# Altium schematic symbol library SEMATIK_LIB.SchLib: 632 symbols (part 6 of 21)
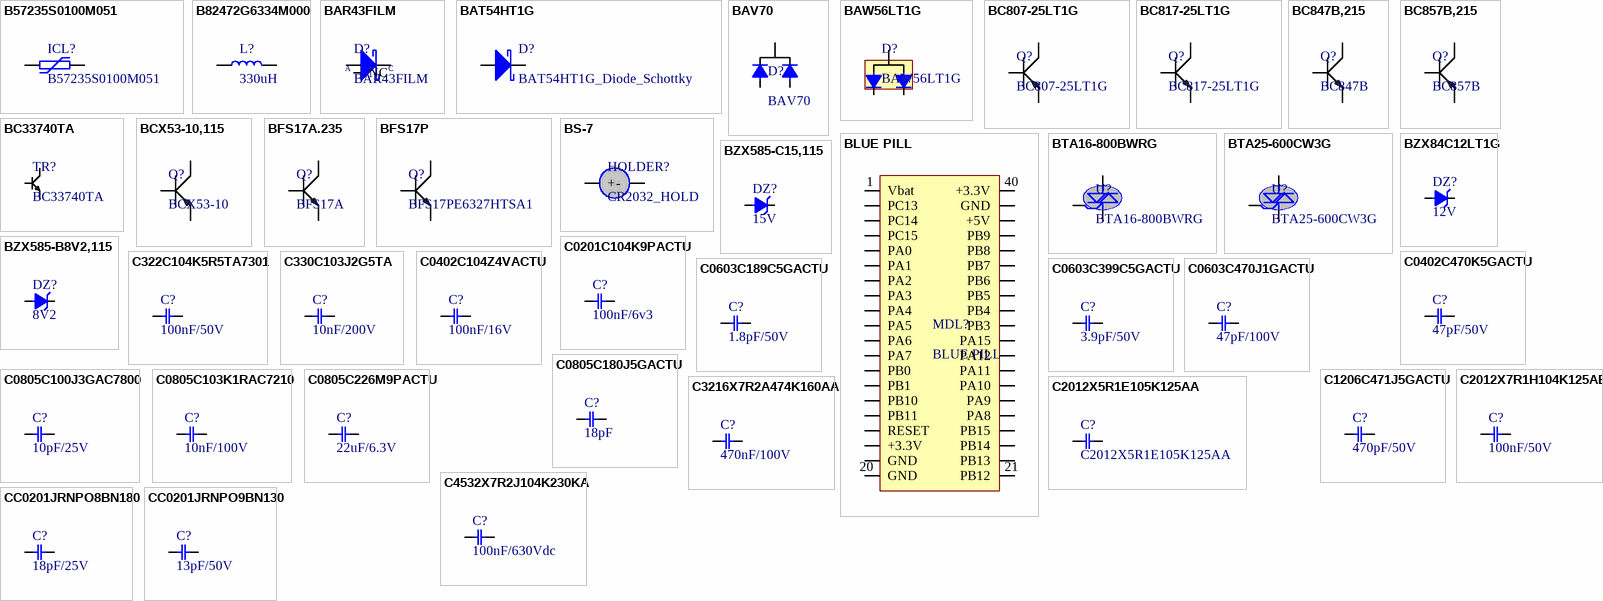
[diagram p21: symbols B57235S0100M051 to CC0201JRNPO9BN130]

## C4532X7R2J104K230KA
designator C?, comment 100nF/630Vdc
CAP CER nF 100 630V X7R 1812; Manufacturer 1: TDK; Manufacturer Part Number 1: C4532X7R2J104K230KA; Description 1: CAP CER 0.1UF 630V X7R 1812; Tolerance: 10%; Capacitance: 100nF; Supplier 1: Digi-Key; Stock 1: 56205; Pricing 1: 1=0.66, 10=0.483, 100=0.3312 (USD); Mount: Surface Mount; Case/Package: 1812; Weight: 0.000952oz; Case Code (Metric): 4532; Case Code (Imperial): 1812; Min Operating Temperature: -55°C; Max Operating Temperature: 125°C; Packaging: Tape and Reel; Package Quantity: 1; Voltage Rating: 630V; Voltage Rating (DC): 630V; Dielectric: X7R; Termination: SMD/SMT; Composition: Ceramic; Voltage: 630V; Length: 4.5mm; Height: 2.3mm; Width: 0.126inch; Thickness: 0.098inch; Depth: 3.2mm; REACH SVHC: No SVHC; Lead Free: Lead Free; ComponentLink1URL: http://uk.rs-online.com/webdocs/1532/0900766b81532cd0.pdf?src-supplier=RSComponents; ComponentLink1Description: http://uk.rs-online.com/webdocs/1532/0900766b81532cd0.pdf?src-supplier=RSComponents; ComponentLink2URL: http://www.mouser.com/ds/2/400/lcc_commercial_highvoltage_en-520036.pdf?src-supplier=Mouser; ComponentLink2Description: http://www.mouser.com/ds/2/400/lcc_commercial_highvoltage_en-520036.pdf?src-supplier=Mouser; Supplier Part Number 1: 445-2300-1-ND
footprint Cap_1812
pins: 1, 2

## CC0201JRNPO8BN180
designator C?, comment 18pF/25V
CAP CER pF 18 25V NPO 0201; Manufacturer: Yageo; Manufacturer Part Number: CC0201JRNPO8BN180; Dielectric: C0G; Capacitance: 18pF; Tolerance: 5%; Supplier 1: Digi-Key; Stock 1: 48145; Pricing 1: 1 = 0,10000, 10 = 0,01500, 50 = 0,00840, 100 = 0,00680, 500 = 0,00488, 1000 = 0,00384, 2500 = 0,00349, 5000 = 0,00321 (USD); RoHS: Yes; Mount: Surface Mount; Case/Package: 0201; Weight: 6E-06oz; Case Code (Imperial): 0201; Case Code (Metric): 0603; Min Operating Temperature: -55°C; Max Operating Temperature: 125°C; Termination: SMD/SMT; Composition: Ceramic; Voltage Rating: 25V; Voltage Rating (DC): 25V; Packaging: Tape and Reel; Length: 0.024inch; Width: 0.012inch; Thickness: 0.013inch; ComponentLink1URL: http://www.mouser.com/ds/2/447/Yageo_UPY-GP_NP0_16V-to-50V_9-358835.pdf?src-supplier=Mouser; ComponentLink1Description: http://www.mouser.com/ds/2/447/Yageo_UPY-GP_NP0_16V-to-50V_9-358835.pdf?src-supplier=Mouser; ComponentLink2URL: http://components.arrow.com/part/dataview/0323_04166358?src-supplier=Arrow+Europe; ComponentLink2Description: http://components.arrow.com/part/dataview/0323_04166358?src-supplier=Arrow+Europe; ComponentLink3URL: http://www.yageo.com/NewPortal/yageodocoutput?fileName=/pdf/MLCC/UPY-GP_NP0_16V-to-50V_14.pdf&src-supplier=Digi-Key; ComponentLink3Description: http://www.yageo.com/NewPortal/yageodocoutput?fileName=/pdf/MLCC/UPY-GP_NP0_16V-to-50V_14.pdf&src-supplier=Digi-Key; ComponentLink4URL: http://www.yageo.com/documents/recent/UPY-GP_NP0_16V-to-50V_16.pdf?src-supplier=Digi-Key; ComponentLink4Description: http://www.yageo.com/documents/recent/UPY-GP_NP0_16V-to-50V_16.pdf?src-supplier=Digi-Key; Supplier Part Number 1: 311-3314-6-ND
footprint cap_0201
pins: 1, 2

## CC0201JRNPO9BN130
designator C?, comment 13pF/50V
CAP CER pF 13 50V C0G/NPO 0201; Manufacturer: Yageo; Manufacturer Part Number: CC0201JRNPO9BN130; Supplier 1: Digi-Key; Stock 1: 0; Pricing 1: 15000 = 0,01136 (USD); Supplier Part Number 1: 13-CC0201JRNPO9BN130TR-ND
footprint cap_0201
pins: 1, 2

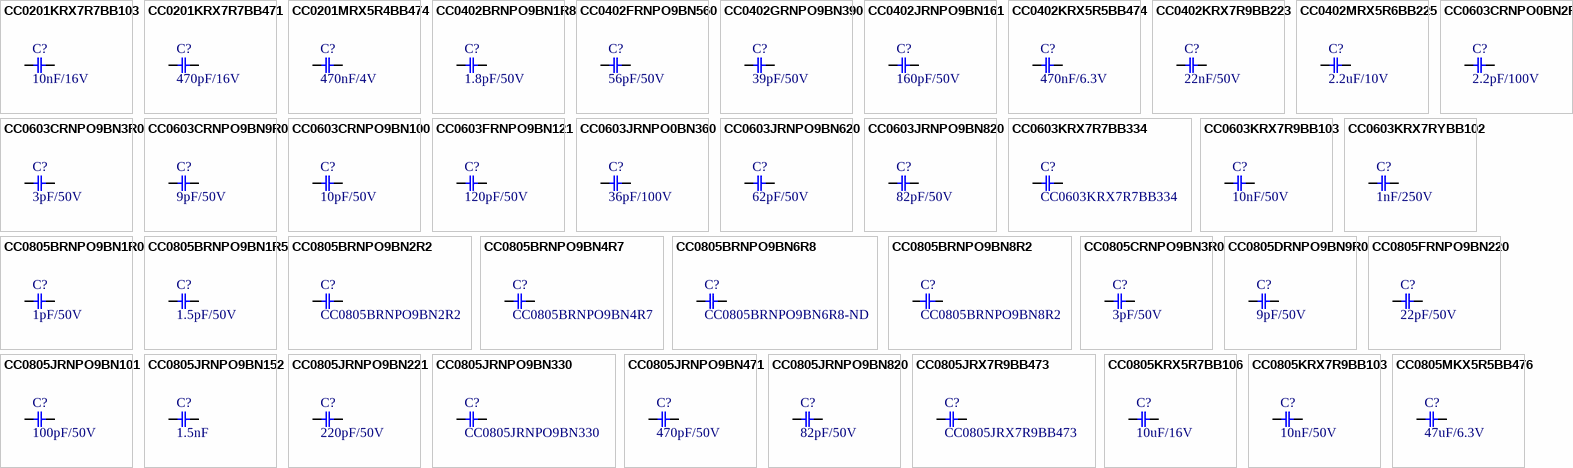
[diagram p4: symbols CC0201KRX7R7BB103 to CC0805MKX5R5BB476]

## CC0201KRX7R7BB103
designator C?, comment 10nF/16V
CAP CER nF 10 16V X7R 0201; Manufacturer: Yageo; Manufacturer Part Number: CC0201KRX7R7BB103; Capacitance: 10nF; Tolerance: 10%; Supplier 1: Digi-Key; Stock 1: 1656820; Pricing 1: 1 = 0,10000, 10 = 0,01900, 100 = 0,00830, 500 = 0,00592, 1000 = 0,00466, 2500 = 0,00424, 5000 = 0,00390 (USD); RoHS: Yes; Mount: Surface Mount; Case/Package: 0201; Weight: 6E-06oz; Case Code (Imperial): 0201; Case Code (Metric): 0603; Min Operating Temperature: -55°C; Max Operating Temperature: 125°C; Voltage Rating: 16V; Package Quantity: 1; Voltage Rating (DC): 16V; Packaging: Tape and Reel; Dielectric: X7R; Termination: SMD/SMT; Composition: Ceramic; Length: 0.6mm; Height: 0.3mm; Width: 0.3mm; Thickness: 0.013inch; Depth: 0.3mm; Lead Free: Lead Free; Halogen Free: Halogen Free; ComponentLink1URL: https://datasheet.ciiva.com/13265/upy-gphc-x7r-6-3v-to-50v-8-12304-13265093.pdf?src-supplier=Mouser; ComponentLink1Description: https://datasheet.ciiva.com/13265/upy-gphc-x7r-6-3v-to-50v-8-12304-13265093.pdf?src-supplier=Mouser; ComponentLink2URL: https://datasheet.ciiva.com/176/mlccorderingcode-176522.pdf?src-supplier=Digi-Key; ComponentLink2Description: https://datasheet.ciiva.com/176/mlccorderingcode-176522.pdf?src-supplier=Digi-Key; ComponentLink3URL: https://datasheet.ciiva.com/176/mlccorderingcode-176523.pdf?src-supplier=Digi-Key; ComponentLink3Description: https://datasheet.ciiva.com/176/mlccorderingcode-176523.pdf?src-supplier=Digi-Key; ComponentLink4URL: https://datasheet.ciiva.com/176/mlccorderingcode-176524.pdf?src-supplier=Digi-Key; ComponentLink4Description: https://datasheet.ciiva.com/176/mlccorderingcode-176524.pdf?src-supplier=Digi-Key; Supplier Part Number 1: 311-1404-6-ND
footprint cap_0201
pins: 1, 2

## CC0201KRX7R7BB471
designator C?, comment 470pF/16V
CAP CER pF 470 16V X7R 0201; Manufacturer: Yageo; Manufacturer Part Number: CC0201KRX7R7BB471; Capacitance: 470pF; Tolerance: 10%; Supplier 1: Digi-Key; Stock 1: 26797; Pricing 1: 1 = 0,10000, 10 = 0,02700, 50 = 0,01460, 100 = 0,01200, 500 = 0,00854, 1000 = 0,00672, 2500 = 0,00610, 5000 = 0,00562 (USD); RoHS: Yes; Mount: Surface Mount; Case/Package: 0201; Weight: 6E-06oz; Case Code (Imperial): 0201; Case Code (Metric): 0603; Min Operating Temperature: -55°C; Max Operating Temperature: 125°C; Voltage Rating (DC): 16V; Packaging: Tape and Reel; Dielectric: X7R; Voltage Rating: 16V; Termination: SMD/SMT; Composition: Ceramic; Length: 0.024inch; Width: 0.012inch; Thickness: 0.013inch; Depth: 0.3mm; Radiation Hardening: No; Lead Free: Lead Free; Halogen Free: Halogen Free; ComponentLink1URL: https://datasheet.ciiva.com/11587/upy-gphc-x7r-6-3v-to-50v-8-11587099.pdf?src-supplier=Avnet; ComponentLink1Description: https://datasheet.ciiva.com/11587/upy-gphc-x7r-6-3v-to-50v-8-11587099.pdf?src-supplier=Avnet; ComponentLink2URL: https://datasheet.ciiva.com/13209/upy-gphc-x7r-6-3v-to-50v-8-12304-13209598.pdf?src-supplier=Mouser; ComponentLink2Description: https://datasheet.ciiva.com/13209/upy-gphc-x7r-6-3v-to-50v-8-12304-13209598.pdf?src-supplier=Mouser; Supplier Part Number 1: 311-1603-1-ND
footprint cap_0201
pins: 1, 2

## CC0201MRX5R4BB474
designator C?, comment 470nF/4V
CAP CER nF 470 4V X5R 0201; Manufacturer: Yageo; Manufacturer Part Number: CC0201MRX5R4BB474; Capacitance: 470nF; Tolerance: 20%; Supplier 1: Digi-Key; Stock 1: 75584; Pricing 1: 1 = 0,10000, 10 = 0,07100, 100 = 0,03150, 500 = 0,02252, 1000 = 0,01770, 2500 = 0,01609, 5000 = 0,01480 (USD); RoHS: Yes; Mount: Surface Mount; Case/Package: 0201; Min Operating Temperature: -55°C; Max Operating Temperature: 85°C; Packaging: Tape and Reel; Voltage Rating: 4V; Length: 0.024inch; Width: 0.012inch; Thickness: 0.013inch; ComponentLink1URL: http://www.yageo.com/documents/recent/UPY-GPHC_X5R_4V-to-50V_23.pdf?src-supplier=Digi-Key; ComponentLink1Description: http://www.yageo.com/documents/recent/UPY-GPHC_X5R_4V-to-50V_23.pdf?src-supplier=Digi-Key; ComponentLink2URL: http://www.yageo.com/documents/recent/UPY-GPHC_X5R_4V-to-50V_25.pdf?src-supplier=Digi-Key; ComponentLink2Description: http://www.yageo.com/documents/recent/UPY-GPHC_X5R_4V-to-50V_25.pdf?src-supplier=Digi-Key; Supplier Part Number 1: 311-3320-1-ND
footprint cap_0402
footprint cap_0402_NOSILK
pins: 1, 2

## CC0402BRNPO9BN1R8
designator C?, comment 1.8pF/50V
CAP CER pF 1.8 50V C0G/NPO 0402; Manufacturer: Yageo; Manufacturer Part Number: CC0402BRNPO9BN1R8; Dielectric: C0G; Capacitance: 1.8pF; Supplier 1: Digi-Key; Stock 1: 35732; Pricing 1: 1 = 0,10000, 10 = 0,03700, 50 = 0,02000, 100 = 0,01630, 500 = 0,01162, 1000 = 0,00914, 2500 = 0,00830, 5000 = 0,00764 (USD); RoHS: Yes; Mount: Surface Mount; Case/Package: 0402; Number of Pins: 2; Case Code (Metric): 1005; Case Code (Imperial): 0402; Min Operating Temperature: -55°C; Max Operating Temperature: 125°C; Resistor Type: Ceramic; Voltage Rating: 50V; Packaging: Tape and Reel; Voltage Rating (DC): 50V; Length: 1mm; Width: 0.02inch; Thickness: 0.022inch; Depth: 0.5mm; Radiation Hardening: No; Lead Free: Lead Free; ComponentLink1URL: https://datasheet.ciiva.com/17437/upy-gp-np0-16v-to-50v-8-17437397.pdf?src-supplier=Avnet+Europe; ComponentLink1Description: https://datasheet.ciiva.com/17437/upy-gp-np0-16v-to-50v-8-17437397.pdf?src-supplier=Avnet+Europe; ComponentLink2URL: https://datasheet.ciiva.com/13210/upy-gp-np0-16v-to-50v-8-13210503.pdf?src-supplier=Mouser; ComponentLink2Description: https://datasheet.ciiva.com/13210/upy-gp-np0-16v-to-50v-8-13210503.pdf?src-supplier=Mouser; Supplier Part Number 1: 311-1616-1-ND
footprint cap_0402
pins: 1, 2

## CC0402FRNPO9BN560
designator C?, comment 56pF/50V
CAP CER pF 56 50V NPO 0402; Manufacturer: Yageo; Manufacturer Part Number: CC0402FRNPO9BN560; Capacitance: 56pF; Tolerance: 1%; Dielectric: C0G; Supplier 1: Digi-Key; Stock 1: 49546; Pricing 1: 1 = 0,12000, 10 = 0,08500, 50 = 0,04640, 100 = 0,03790, 500 = 0,02706, 1000 = 0,02127, 2500 = 0,01933, 5000 = 0,01779 (USD); RoHS: Yes; Mount: Surface Mount; Case/Package: 0402; Case Code (Imperial): 0402; Case Code (Metric): 1005; Min Operating Temperature: -55°C; Max Operating Temperature: 125°C; Voltage Rating: 50V; Packaging: Tape and Reel; Voltage Rating (DC): 50V; Termination: SMD/SMT; Composition: Ceramic; Length: 1mm; Height: 0.5mm; Width: 0.02inch; Thickness: 0.022inch; Depth: 0.5mm; Radiation Hardening: No; Lead Free: Lead Free; ComponentLink1URL: https://datasheet.ciiva.com/11587/upy-gp-np0-16v-to-50v-8-11587063.pdf?src-supplier=Avnet; ComponentLink1Description: https://datasheet.ciiva.com/11587/upy-gp-np0-16v-to-50v-8-11587063.pdf?src-supplier=Avnet; ComponentLink2URL: https://datasheet.ciiva.com/13211/upy-gp-np0-16v-to-50v-8-13211096.pdf?src-supplier=Mouser; ComponentLink2Description: https://datasheet.ciiva.com/13211/upy-gp-np0-16v-to-50v-8-13211096.pdf?src-supplier=Mouser; Supplier Part Number 1: 311-3734-1-ND
footprint cap_0402_NOSILK
pins: 1, 2

## CC0402GRNPO9BN390
designator C?, comment 39pF/50V
CAP CER pF 39 50V C0G/NPO 0402; Manufacturer: Yageo; Manufacturer Part Number: CC0402GRNPO9BN390; Capacitance: 39pF; Dielectric: C0G; Tolerance: 2%; Supplier 1: Digi-Key; Stock 1: 30687; Pricing 1: 1 = 0,10000, 10 = 0,04700, 50 = 0,02560, 100 = 0,02100, 500 = 0,01498, 1000 = 0,01177, 2500 = 0,01070, 5000 = 0,00984 (USD); RoHS: Yes; Mount: Surface Mount; Case/Package: 0402; Case Code (Imperial): 0402; Case Code (Metric): 1005; Weight: 2.3E-05oz; Min Operating Temperature: -55°C; Max Operating Temperature: 125°C; Termination: SMD/SMT; Packaging: Tape and Reel; Voltage Rating (DC): 50V; Voltage Rating: 50V; Resistor Type: Ceramic; Length: 0.039inch; Width: 0.02inch; Depth: 0.5mm; Thickness: 0.022inch; Lead Free: Lead Free; ComponentLink1URL: https://datasheet.ciiva.com/13209/upy-gp-np0-16v-to-50v-8-13209420.pdf?src-supplier=Mouser; ComponentLink1Description: https://datasheet.ciiva.com/13209/upy-gp-np0-16v-to-50v-8-13209420.pdf?src-supplier=Mouser; Supplier Part Number 1: 311-1655-1-ND
footprint cap_0402
pins: 1, 2

## CC0402JRNPO9BN161
designator C?, comment 160pF/50V
CAP CER pF 160 50V NPO 0402; Manufacturer: Yageo; Manufacturer Part Number: CC0402JRNPO9BN161; Capacitance: 160pF; Tolerance: 5%; Supplier 1: Digi-Key; Stock 1: 4224; Pricing 1: 1 = 0,13000, 10 = 0,09300, 50 = 0,05280, 100 = 0,04380, 500 = 0,03074, 1000 = 0,02544, 2500 = 0,02368, 5000 = 0,02166 (USD); RoHS: Yes; Mount: Surface Mount; Case/Package: 0402; Min Operating Temperature: -55°C; Max Operating Temperature: 125°C; Packaging: Tape and Reel; Voltage Rating: 50V; Length: 0.039inch; Width: 0.02inch; Thickness: 0.022inch; ComponentLink1URL: http://www.yageo.com/NewPortal/yageodocoutput?fileName=/pdf/MLCC/UPY-GP_NP0_16V-to-50V_14.pdf&src-supplier=Digi-Key; ComponentLink1Description: http://www.yageo.com/NewPortal/yageodocoutput?fileName=/pdf/MLCC/UPY-GP_NP0_16V-to-50V_14.pdf&src-supplier=Digi-Key; ComponentLink2URL: http://www.yageo.com/documents/recent/UPY-GP_NP0_16V-to-50V_16.pdf?src-supplier=Digi-Key; ComponentLink2Description: http://www.yageo.com/documents/recent/UPY-GP_NP0_16V-to-50V_16.pdf?src-supplier=Digi-Key; Supplier Part Number 1: 311-3338-1-ND
footprint cap_0402_NOSILK
footprint cap_0402
pins: 1, 2

## CC0402KRX5R5BB474
designator C?, comment 470nF/6.3V
CAP CER nF 470 6.3V X5R 0402; Manufacturer: Yageo; Manufacturer Part Number: CC0402KRX5R5BB474; Tolerance: 10%; Capacitance: 470nF; Supplier 1: Digi-Key; Stock 1: 123531; Pricing 1: 1 = 0,10000, 10 = 0,07000, 100 = 0,03130, 500 = 0,02236, 1000 = 0,01758, 2500 = 0,01598, 5000 = 0,01470 (USD); RoHS: Yes; Mount: Surface Mount; Case/Package: 0402; Number of Pins: 2; Weight: 2.3E-05oz; Case Code (Imperial): 0402; Case Code (Metric): 1005; Min Operating Temperature: -55°C; Max Operating Temperature: 85°C; Packaging: Tape and Reel; Voltage Rating: 6.3V; Voltage Rating (DC): 6.3V; Dielectric: X5R; Termination: SMD/SMT; Composition: Ceramic; Length: 1mm; Height: 0.5mm; Width: 0.02inch; Depth: 0.5mm; Thickness: 0.022inch; Radiation Hardening: No; Lead Free: Lead Free; Halogen Free: Halogen Free; ComponentLink1URL: http://components.arrow.com/part/dataview/0323_00776134?src-supplier=Arrow+Europe; ComponentLink1Description: http://components.arrow.com/part/dataview/0323_00776134?src-supplier=Arrow+Europe; ComponentLink2URL: http://www.mouser.com/ds/2/447/UPY-GPHC_X5R_4V-to-50V_25-1131599.pdf?src-supplier=Mouser; ComponentLink2Description: http://www.mouser.com/ds/2/447/UPY-GPHC_X5R_4V-to-50V_25-1131599.pdf?src-supplier=Mouser; ComponentLink3URL: http://www.yageo.com/documents/recent/UPY-GPHC_X5R_4V-to-50V-16.pdf?src-supplier=Future+Electronics; ComponentLink3Description: http://www.yageo.com/documents/recent/UPY-GPHC_X5R_4V-to-50V-16.pdf?src-supplier=Future+Electronics; ComponentLink4URL: http://www.yageo.com/documents/recent/UPY-GPHC_X5R_4V-to-50V_12.pdf?src-supplier=Avnet; ComponentLink4Description: http://www.yageo.com/documents/recent/UPY-GPHC_X5R_4V-to-50V_12.pdf?src-supplier=Avnet; ComponentLink5URL: http://www.yageo.com/documents/recent/UPY-GPHC_X5R_4V-to-50V_10.pdf?src-supplier=Avnet+Europe; ComponentLink5Description: http://www.yageo.com/documents/recent/UPY-GPHC_X5R_4V-to-50V_10.pdf?src-supplier=Avnet+Europe; ComponentLink6URL: http://www.yageo.com/exep/pages/download/literatures/ProductSelectionGuide%202014_Final_2.pdf?src-supplier=Digi-Key; ComponentLink6Description: http://www.yageo.com/exep/pages/download/literatures/ProductSelectionGuide%202014_Final_2.pdf?src-supplier=Digi-Key; ComponentLink7URL: http://www.yageo.com/documents/recent/UPY-GPHC_X5R_4V-to-50V_25.pdf?src-supplier=Digi-Key; ComponentLink7Description: http://www.yageo.com/documents/recent/UPY-GPHC_X5R_4V-to-50V_25.pdf?src-supplier=Digi-Key; ComponentLink8URL: https://www.verical.com/server-webapp/html/getDatasheet?partID=376669&src-supplier=Verical; ComponentLink8Description: https://www.verical.com/server-webapp/html/getDatasheet?partID=376669&src-supplier=Verical; Supplier Part Number 1: 311-1684-1-ND
footprint cap_0402_NOSILK
footprint cap_0402
pins: 1, 2

## CC0402KRX7R9BB223
designator C?, comment 22nF/50V
CAP CER nF 22 50V X7R 0402; Manufacturer: Yageo; Manufacturer Part Number: CC0402KRX7R9BB223; Tolerance: 10%; Capacitance: 22nF; Supplier 1: Digi-Key; Stock 1: 75087; Pricing 1: 1 = 0,10000, 10 = 0,04000, 50 = 0,02180, 100 = 0,01780, 500 = 0,01274, 1000 = 0,01001, 2500 = 0,00910, 5000 = 0,00837 (USD); RoHS: Yes; Mount: Surface Mount; Case/Package: 0402; Weight: 2.3E-05oz; Case Code (Metric): 1005; Case Code (Imperial): 0402; Min Operating Temperature: -55°C; Max Operating Temperature: 125°C; Packaging: Tape and Reel; Dielectric: X7R; Voltage Rating: 50V; Termination: SMD/SMT; Composition: Ceramic; Voltage Rating (DC): 50V; Package Quantity: 10000; Length: 1mm; Width: 0.02inch; Thickness: 0.022inch; Depth: 0.5mm; Lead Free: Lead Free; Halogen Free: Halogen Free; ComponentLink1URL: http://components.arrow.com/part/dataview/0323_07044632?src-supplier=Arrow+Europe; ComponentLink1Description: http://components.arrow.com/part/dataview/0323_07044632?src-supplier=Arrow+Europe; ComponentLink2URL: http://www.mouser.com/ds/2/447/Yageo_UPY-GP_NP0_16V-to-50V_9-358835.pdf?src-supplier=Mouser; ComponentLink2Description: http://www.mouser.com/ds/2/447/Yageo_UPY-GP_NP0_16V-to-50V_9-358835.pdf?src-supplier=Mouser; ComponentLink3URL: http://www.yageo.com/exep/pages/download/literatures/ProductSelectionGuide%202014_Final_2.pdf?src-supplier=Digi-Key; ComponentLink3Description: http://www.yageo.com/exep/pages/download/literatures/ProductSelectionGuide%202014_Final_2.pdf?src-supplier=Digi-Key; ComponentLink4URL: http://www.yageo.com/documents/recent/UPY-GPHC_X7R_6.3V-to-50V_18.pdf?src-supplier=Digi-Key; ComponentLink4Description: http://www.yageo.com/documents/recent/UPY-GPHC_X7R_6.3V-to-50V_18.pdf?src-supplier=Digi-Key; Supplier Part Number 1: 311-1722-1-ND
footprint cap_0402_NOSILK
footprint cap_0402
pins: 1, 2

## CC0402MRX5R6BB225
designator C?, comment 2.2uF/10V
CAP CER uF 2.2 10V X5R 0402; Manufacturer: Yageo; Manufacturer Part Number: CC0402MRX5R6BB225; Capacitance: 2.2uF; Tolerance: 20%; Supplier 1: Digi-Key; Stock 1: 49990; Pricing 1: 1 = 0,11000 (USD); RoHS: Yes; Mount: Surface Mount; Case/Package: 0402; Weight: 2.3E-05oz; Case Code (Metric): 1005; Case Code (Imperial): 0402; Min Operating Temperature: -55°C; Max Operating Temperature: 85°C; Packaging: Tape and Reel; Voltage Rating: 10V; Dielectric: X5R; Termination: SMD/SMT; Voltage Rating (DC): 10V; Package Quantity: 5000; Length: 0.039inch; Width: 0.02inch; Thickness: 0.022inch; Lead Free: Lead Free; Halogen Free: Halogen Free; ComponentLink1URL: http://www.mouser.com/ds/2/447/Yageo_UPY-GP_NP0_16V-to-50V_9-358835.pdf?src-supplier=Mouser; ComponentLink1Description: http://www.mouser.com/ds/2/447/Yageo_UPY-GP_NP0_16V-to-50V_9-358835.pdf?src-supplier=Mouser; ComponentLink2URL: http://www.yageo.com/exep/pages/download/literatures/ProductSelectionGuide%202014_Final_2.pdf?src-supplier=Digi-Key; ComponentLink2Description: http://www.yageo.com/exep/pages/download/literatures/ProductSelectionGuide%202014_Final_2.pdf?src-supplier=Digi-Key; ComponentLink3URL: http://www.yageo.com/documents/recent/UPY-GPHC_X5R_4V-to-50V_25.pdf?src-supplier=Digi-Key; ComponentLink3Description: http://www.yageo.com/documents/recent/UPY-GPHC_X5R_4V-to-50V_25.pdf?src-supplier=Digi-Key; Supplier Part Number 1: 311-1733-1-ND
footprint cap_0402_NOSILK
footprint cap_0402
pins: 1, 2

## CC0603CRNPO0BN2R2
designator C?, comment 2.2pF/100V
CAP CER pF 2.2 100V NPO 0603; Manufacturer: Yageo; Manufacturer Part Number: CC0603CRNPO0BN2R2; Dielectric: C0G; Capacitance: 2.2pF; Supplier 1: Digi-Key; Stock 1: 10975; Pricing 1: 1 = 0,10000, 10 = 0,06100, 50 = 0,03340, 100 = 0,02730, 500 = 0,01948, 1000 = 0,01531 (USD); RoHS: Yes; Mount: Surface Mount; Case/Package: 0603; Case Code (Imperial): 0603; Case Code (Metric): 1608; Weight: 7.1E-05oz; Min Operating Temperature: -55°C; Max Operating Temperature: 125°C; Packaging: Tape and Reel; Voltage Rating (DC): 100V; Voltage Rating: 100V; Termination: SMD/SMT; Resistor Type: Ceramic; Length: 1.6mm; Width: 0.031inch; Height: 0.8mm; Thickness: 0.035inch; Depth: 0.8mm; Radiation Hardening: No; ComponentLink1URL: https://datasheet.ciiva.com/17437/upy-np0x7r-mv-100-to-630v-9-17437080.pdf?src-supplier=Avnet+Europe; ComponentLink1Description: https://datasheet.ciiva.com/17437/upy-np0x7r-mv-100-to-630v-9-17437080.pdf?src-supplier=Avnet+Europe; ComponentLink2URL: https://datasheet.ciiva.com/13209/upy-gp-np0-16v-to-50v-8-13209535.pdf?src-supplier=Mouser; ComponentLink2Description: https://datasheet.ciiva.com/13209/upy-gp-np0-16v-to-50v-8-13209535.pdf?src-supplier=Mouser; Supplier Part Number 1: 311-3847-1-ND
footprint cap_0603
pins: 1, 2

## CC0603CRNPO9BN3R0
designator C?, comment 3pF/50V
CAP CER pF 3 50V C0G/NPO 0603; Manufacturer: Yageo; Manufacturer Part Number: CC0603CRNPO9BN3R0; Dielectric: C0G; Capacitance: 3pF; Supplier 1: Digi-Key; Stock 1: 14061; Pricing 1: 1 = 0,10000, 10 = 0,06100, 100 = 0,02740, 500 = 0,01956, 1000 = 0,01537 (USD); RoHS: Yes; Mount: Surface Mount; Case/Package: 0603; Case Code (Imperial): 0603; Case Code (Metric): 1608; Min Operating Temperature: -55°C; Max Operating Temperature: 125°C; Packaging: Tape and Reel; Package Quantity: 1; Voltage Rating: 50V; Voltage Rating (DC): 50V; Termination: SMD/SMT; Composition: Ceramic; Length: 1.6mm; Width: 0.8mm; Thickness: 0.035inch; Depth: 0.8mm; Radiation Hardening: No; Lead Free: Lead Free; ComponentLink1URL: https://datasheet.ciiva.com/26862/getdatasheetpartid-557121-26862689.pdf?src-supplier=Verical; ComponentLink1Description: https://datasheet.ciiva.com/26862/getdatasheetpartid-557121-26862689.pdf?src-supplier=Verical; ComponentLink2URL: https://datasheet.ciiva.com/144/mlccorderingcode-144715.pdf?src-supplier=Digi-Key; ComponentLink2Description: https://datasheet.ciiva.com/144/mlccorderingcode-144715.pdf?src-supplier=Digi-Key; ComponentLink3URL: https://datasheet.ciiva.com/5427/upy-gp-np0-16v-to-50v-8-5427749.pdf?src-supplier=Mouser; ComponentLink3Description: https://datasheet.ciiva.com/5427/upy-gp-np0-16v-to-50v-8-5427749.pdf?src-supplier=Mouser; ComponentLink4URL: https://datasheet.ciiva.com/144/mlccorderingcode-144716.pdf?src-supplier=Digi-Key; ComponentLink4Description: https://datasheet.ciiva.com/144/mlccorderingcode-144716.pdf?src-supplier=Digi-Key; ComponentLink5URL: https://datasheet.ciiva.com/144/mlccorderingcode-144717.pdf?src-supplier=Digi-Key; ComponentLink5Description: https://datasheet.ciiva.com/144/mlccorderingcode-144717.pdf?src-supplier=Digi-Key; Supplier Part Number 1: 311-1052-1-ND
footprint cap_0603
pins: 1, 2

## CC0603CRNPO9BN9R0
designator C?, comment 9pF/50V
CAP CER pF 9 50V C0G/NPO 0603; Manufacturer: Yageo; Manufacturer Part Number: CC0603CRNPO9BN9R0; Capacitance: 9pF; Dielectric: C0G; Supplier 1: Digi-Key; RoHS: Yes; Category: Ceramic Capacitors; Stock 1: 10081; Pricing 1: 1=0,16000, 10=0,11600, 50=0,06600, 100=0,05470, 500=0,03834, 1000=0,03175 (USD); Mount: Surface Mount; Case/Package: 0603; Case Code (Imperial): 0603; Case Code (Metric): 1608; Weight: 7.1E-05oz; Min Operating Temperature: -55°C; Max Operating Temperature: 125°C; Packaging: Tape and Reel; Voltage Rating (DC): 50V; Voltage Rating: 50V; Termination: SMD/SMT; Resistor Type: Ceramic; Length: 0.063inch; Width: 0.031inch; Thickness: 0.035inch; Depth: 0.8mm; ComponentLink1URL: https://datasheet.ciiva.com/13210/upy-gp-np0-16v-to-50v-8-13210057.pdf?src-supplier=Mouser; ComponentLink1Description: https://datasheet.ciiva.com/13210/upy-gp-np0-16v-to-50v-8-13210057.pdf?src-supplier=Mouser; Supplier Part Number 1: 311-3866-1-ND
footprint cap_0603
pins: 1, 2

## CC0603CRNPO9BN100
designator C?, comment 10pF/50V
CAP CER pF 10 50V C0G/NPO 0603; Manufacturer: Yageo; Manufacturer Part Number: CC0603CRNPO9BN100; Capacitance: 10pF; Dielectric: C0G; Supplier 1: Digi-Key; Stock 1: 52000; Pricing 1: 4000 = 0,01539, 8000 = 0,01405, 12000 = 0,01338 (USD); RoHS: Yes; Mount: Surface Mount; Case/Package: 0603; Weight: 7.1E-05oz; Case Code (Imperial): 0603; Case Code (Metric): 1608; Min Operating Temperature: -55°C; Max Operating Temperature: 125°C; Voltage Rating (DC): 50V; Packaging: Tape and Reel; Voltage Rating: 50V; Termination: SMD/SMT; Composition: Ceramic; Length: 0.063inch; Width: 0.031inch; Thickness: 0.035inch; Depth: 0.8mm; Lead Free: Lead Free; ComponentLink1URL: https://datasheet.ciiva.com/13208/upy-gp-np0-16v-to-50v-8-13208966.pdf?src-supplier=Mouser; ComponentLink1Description: https://datasheet.ciiva.com/13208/upy-gp-np0-16v-to-50v-8-13208966.pdf?src-supplier=Mouser; Supplier Part Number 1: 311-1738-2-ND
footprint cap_0603
pins: 1, 2

## CC0603FRNPO9BN121
designator C?, comment 120pF/50V
CAP CER pF 120 50V NPO 0603; Manufacturer: Yageo; Manufacturer Part Number: CC0603FRNPO9BN121; Tolerance: 1%; Capacitance: 120pF; Dielectric: C0G; Supplier 1: Digi-Key; RoHS: Yes; Category: Ceramic Capacitors; Stock 1: 26781; Pricing 1: 1=0,19000, 10=0,13000, 50=0,07780, 100=0,06570, 500=0,04494, 1000=0,03975 (USD); Mount: Surface Mount; Case/Package: 0603; Case Code (Imperial): 0603; Case Code (Metric): 1608; Min Operating Temperature: -55°C; Max Operating Temperature: 125°C; Termination: SMD/SMT; Package Quantity: 4000; Packaging: Tape and Reel; Voltage Rating: 50V; Length: 1.6mm; Width: 0.031inch; Height: 0.8mm; Thickness: 0.035inch; Depth: 0.8mm; Radiation Hardening: No; Lead Free: Lead Free; ComponentLink1URL: https://datasheet.ciiva.com/11586/upy-gp-np0-16v-to-50v-8-11586460.pdf?src-supplier=Avnet; ComponentLink1Description: https://datasheet.ciiva.com/11586/upy-gp-np0-16v-to-50v-8-11586460.pdf?src-supplier=Avnet; ComponentLink2URL: https://datasheet.ciiva.com/17437/upy-gp-np0-16v-to-50v-8-17437134.pdf?src-supplier=Avnet+Europe; ComponentLink2Description: https://datasheet.ciiva.com/17437/upy-gp-np0-16v-to-50v-8-17437134.pdf?src-supplier=Avnet+Europe; Supplier Part Number 1: 311-3886-1-ND
footprint cap_0603
pins: 1, 2

## CC0603JRNPO0BN360
designator C?, comment 36pF/100V
CAP CER pF 36  100V C0G/NPO 0603; Manufacturer: Yageo; Manufacturer Part Number: CC0603JRNPO0BN360; Capacitance: 36pF; Tolerance: 5%; Supplier 1: Digi-Key; RoHS: Yes; Category: Ceramic Capacitors; Stock 1: 21366; Pricing 1: 1=0,11000, 10=0,08100, 50=0,04420, 100=0,03610, 500=0,02576, 1000=0,02024 (USD); Mount: Surface Mount; Case/Package: 0603; Case Code (Metric): 1608; Case Code (Imperial): 0603; Min Operating Temperature: -55°C; Max Operating Temperature: 125°C; Packaging: Tape and Reel; Voltage Rating: 100V; Length: 0.063inch; Width: 0.031inch; Thickness: 0.035inch; ComponentLink1URL: http://www.yageo.com/documents/recent/UPY-NP0X7R_MV_100-to-630V_21.pdf?src-supplier=Digi-Key; ComponentLink1Description: http://www.yageo.com/documents/recent/UPY-NP0X7R_MV_100-to-630V_21.pdf?src-supplier=Digi-Key; ComponentLink2URL: http://www.yageo.com/exep/pages/download/literatures/ProductSelectionGuide%202014_Final_2.pdf?src-supplier=Digi-Key; ComponentLink2Description: http://www.yageo.com/exep/pages/download/literatures/ProductSelectionGuide%202014_Final_2.pdf?src-supplier=Digi-Key; Supplier Part Number 1: 311-1760-1-ND
footprint cap_0603
pins: 1, 2

## CC0603JRNPO9BN620
designator C?, comment 62pF/50V
CAP CER pF 62 50V NPO 0603; Manufacturer: Yageo; Manufacturer Part Number: CC0603JRNPO9BN620; Capacitance: 62pF; Tolerance: 5%; Dielectric: NP0; Supplier 1: Digi-Key; Stock 1: 7107; Pricing 1: 1 = 0,10000, 10 = 0,06800, 50 = 0,03720, 100 = 0,03050, 500 = 0,02176, 1000 = 0,01709 (USD); RoHS: Yes; Mount: Surface Mount; Case/Package: 0603; Case Code (Imperial): 0603; Case Code (Metric): 1608; Weight: 7.1E-05oz; Min Operating Temperature: -55°C; Max Operating Temperature: 125°C; Termination: SMD/SMT; Resistor Type: Ceramic; Voltage Rating (DC): 50V; Packaging: Tape and Reel; Voltage Rating: 50V; Length: 0.063inch; Width: 0.031inch; Thickness: 0.035inch; Lead Free: Lead Free; ComponentLink1URL: https://datasheet.ciiva.com/13264/upy-gp-np0-16v-to-50v-8-3714-13264311.pdf?src-supplier=Mouser; ComponentLink1Description: https://datasheet.ciiva.com/13264/upy-gp-np0-16v-to-50v-8-3714-13264311.pdf?src-supplier=Mouser; Supplier Part Number 1: 311-3973-1-ND
footprint cap_0603
pins: 1, 2

## CC0603JRNPO9BN820
designator C?, comment 82pF/50V
CAP CER pF 82 50V C0G/NPO 0603; Manufacturer: Yageo; Manufacturer Part Number: CC0603JRNPO9BN820; Dielectric Material: Ceramic; Capacitance: 82pF; Tolerance: 5%; Dielectric: C0G; Insulation Resistance: 100GR; Supplier 1: Digi-Key; RoHS: Yes; Category: Ceramic Capacitors; Stock 1: 160975; Pricing 1: 1=0,10000, 10=0,04100, 50=0,02240, 100=0,01830, 500=0,01308, 1000=0,01028 (USD); Mount: Surface Mount; Case/Package: 0603; Number of Pins: 2; Case Code (Metric): 1608; Case Code (Imperial): 0603; Min Operating Temperature: -55°C; Max Operating Temperature: 125°C; Packaging: Tape and Reel; Voltage Rating: 50V; Voltage Rating (DC): 50V; Package Quantity: 1; Termination: SMD/SMT; Resistor Type: Ceramic; Series: CC; Length: 1.6mm; Width: 0.031inch; Height: 0.8mm; Thickness: 0.035inch; Depth: 0.8mm; Radiation Hardening: No; REACH SVHC: No SVHC; Lead Free: Lead Free; RoHS Compliant: Yes; ComponentLink1URL: https://datasheet.ciiva.com/11465/upy-gp-np0-16v-to-50v-8-11465018.pdf?src-supplier=Avnet; ComponentLink1Description: https://datasheet.ciiva.com/11465/upy-gp-np0-16v-to-50v-8-11465018.pdf?src-supplier=Avnet; ComponentLink2URL: https://datasheet.ciiva.com/17437/upy-gp-np0-16v-to-50v-8-17437034.pdf?src-supplier=Avnet+Europe; ComponentLink2Description: https://datasheet.ciiva.com/17437/upy-gp-np0-16v-to-50v-8-17437034.pdf?src-supplier=Avnet+Europe; ComponentLink3URL: https://datasheet.ciiva.com/161/mlccorderingcode-161501.pdf?src-supplier=Digi-Key; ComponentLink3Description: https://datasheet.ciiva.com/161/mlccorderingcode-161501.pdf?src-supplier=Digi-Key; ComponentLink4URL: https://datasheet.ciiva.com/13386/upy-gp-np0-16v-to-50v-8-13386317.pdf?src-supplier=Mouser; ComponentLink4Description: https://datasheet.ciiva.com/13386/upy-gp-np0-16v-to-50v-8-13386317.pdf?src-supplier=Mouser; ComponentLink5URL: https://datasheet.ciiva.com/161/mlccorderingcode-161502.pdf?src-supplier=Digi-Key; ComponentLink5Description: https://datasheet.ciiva.com/161/mlccorderingcode-161502.pdf?src-supplier=Digi-Key; ComponentLink6URL: https://datasheet.ciiva.com/161/mlccorderingcode-161503.pdf?src-supplier=Digi-Key; ComponentLink6Description: https://datasheet.ciiva.com/161/mlccorderingcode-161503.pdf?src-supplier=Digi-Key; Supplier Part Number 1: 311-1068-1-ND
footprint cap_0603
pins: 1, 2

## CC0603KRX7R7BB334
designator C?
CAP CER nF 330 16V X7R 0603; Manufacturer 1: Yageo; Description 1: Multilayer Ceramic Capacitors MLCC - SMD/SMT 330nF 16V X7R 10%; Capacitance: 330nF; Tolerance: 10%; Supplier 1: Digi-Key; Manufacturer Part Number 1: CC0603KRX7R7BB334; Stock 1: 130739; Pricing 1: 1=0.16, 10=0.116, 100=0.0546, 500=0.0383, 1000=0.03171 (USD); Mount: Surface Mount; Case/Package: 0603; Number of Pins: 2; Case Code (Imperial): 0603; Case Code (Metric): 1608; Min Operating Temperature: -55°C; Max Operating Temperature: 125°C; Packaging: Tape and Reel; Voltage Rating: 16V; Voltage Rating (DC): 16V; Dielectric: X7R; Termination: SMD/SMT; Composition: Ceramic; Length: 1.6mm; Height: 0.8mm; Width: 0.031inch; Thickness: 0.035inch; Depth: 0.8mm; Radiation Hardening: No; Lead Free: Lead Free; Halogen Free: Halogen Free; ComponentLink1URL: http://www.mouser.com/ds/2/447/Yageo_UPY-GP_NP0_16V-to-50V_9-358835.pdf?src-supplier=Mouser; ComponentLink1Description: http://www.mouser.com/ds/2/447/Yageo_UPY-GP_NP0_16V-to-50V_9-358835.pdf?src-supplier=Mouser; ComponentLink2URL: https://www.verical.com/server-webapp/html/getDatasheet?partID=487492&src-supplier=Verical; ComponentLink2Description: https://www.verical.com/server-webapp/html/getDatasheet?partID=487492&src-supplier=Verical; Supplier Part Number 1: 311-2081-1-ND
footprint CAP_CER_0603
pins: 1, 2

## CC0603KRX7R9BB103
designator C?, comment 10nF/50V
CAP CER nF 10 50V X7R  0603; Manufacturer 1: Yageo; Manufacturer Part Number 1: CC0603KRX7R9BB103; Manufacturer: Phoenix Contact; Manufacturer Part Number: 1770908; Description 1: Cap Ceramic 0.01uF 50V X7R 10% SMD 0603 125C Automotive T/R; Material: Ceramic; Tolerance: 10%; Capacitance: 10nF; Insulation Resistance: 100GR; Color: Black; Current Rating: 6A; Number of Levels: 1; Number of Positions Per Level: 4; Current: 5A; Wire Gauge (Max): 26AWG; Wire Gauge (Min): 20AWG; Pitch: 2.5mm; Supplier 1: Digi-Key; Stock 1: 8041877; Pricing 1: 1=0.1, 10=0.038, 100=0.0171, 500=0.01224, 1000=0.00962 (USD); Mount: Surface Mount; Case/Package: 0603; Number of Pins: 2; Case Code (Metric): 1608; Case Code (Imperial): 0603; Min Operating Temperature: -55°C; Max Operating Temperature: 125°C; Packaging: Tape and Reel; Voltage Rating: 50V; Voltage Rating (DC): 50V; Package Quantity: 1; Dielectric: X7R; Termination: SMD/SMT; Composition: Ceramic; Voltage: 50V; Length: 1.6mm; Height: 0.8mm; Width: 0.031inch; Thickness: 0.035inch; Depth: 0.8mm; Radiation Hardening: No; REACH SVHC: No SVHC; Lead Free: Lead Free; Halogen Free: Halogen Free; ComponentLink1URL: http://www.farnell.com/datasheets/1734573.pdf?src-supplier=Element14; ComponentLink1Description: http://www.farnell.com/datasheets/1734573.pdf?src-supplier=Element14; ComponentLink2URL: http://www.yageo.com/documents/recent/UPY-GPHC_X7R_6.3V-to-50V_18.pdf?src-supplier=Digi-Key; ComponentLink2Description: http://www.yageo.com/documents/recent/UPY-GPHC_X7R_6.3V-to-50V_18.pdf?src-supplier=Digi-Key; ComponentLink3URL: http://www.farnell.com/datasheets/2167236.pdf?src-supplier=Mouser; ComponentLink3Description: http://www.farnell.com/datasheets/2167236.pdf?src-supplier=Mouser; ComponentLink4URL: http://www.farnell.com/datasheets/70765.pdf?src-supplier=Element14; ComponentLink4Description: http://www.farnell.com/datasheets/70765.pdf?src-supplier=Element14; ComponentLink5URL: http://www.yageo.com/documents/recent/UPY-GPHC_X7R_6.3V-to-50V_8.pdf?src-supplier=Avnet+Europe; ComponentLink5Description: http://www.yageo.com/documents/recent/UPY-GPHC_X7R_6.3V-to-50V_8.pdf?src-supplier=Avnet+Europe; ComponentLink6URL: http://www.farnell.com/datasheets/1489800.pdf?src-supplier=Element14; ComponentLink6Description: http://www.farnell.com/datasheets/1489800.pdf?src-supplier=Element14; ComponentLink7URL: https://www.verical.com/server-webapp/html/getDatasheet?partID=403582&src-supplier=Verical; ComponentLink7Description: https://www.verical.com/server-webapp/html/getDatasheet?partID=403582&src-supplier=Verical; Supplier Part Number 1: 311-1085-1-ND; Supplier 2: Digi-Key; Stock 2: 3180; Pricing 2: 530 = 0,73500, 1060 = 0,67620, 1590 = 0,62475 (USD); RoHS: Yes; Housing Material: Polymer; Housing Color: Black; Contact Plating: Tin; Orientation: Horizontal; Number of Positions: 4; Number of Poles: 4; Flammability Rating: UL94 V-0; ComponentLink8URL: https://datasheet.ciiva.com/824/1770908-824240.pdf?src-supplier=Digi-Key; ComponentLink8Description: https://datasheet.ciiva.com/824/1770908-824240.pdf?src-supplier=Digi-Key; ComponentLink9URL: https://datasheet.ciiva.com/26945/getdatasheetpartid-464006-26945362.pdf?src-supplier=Verical; ComponentLink9Description: https://datasheet.ciiva.com/26945/getdatasheetpartid-464006-26945362.pdf?src-supplier=Verical; ComponentLink10URL: https://datasheet.ciiva.com/29121/567629-da-01-de-printklemme-1770908-530-st-29121155.pdf?src-supplier=Conrad; ComponentLink10Description: https://datasheet.ciiva.com/29121/567629-da-01-de-printklemme-1770908-530-st-29121155.pdf?src-supplier=Conrad; Supplier Part Number 2: 277-2081-2-ND
footprint cap_0603
pins: 1, 2

## CC0603KRX7RYBB102
designator C?, comment 1nF/250V
CAP CER nF 1 250V X7R 0603
footprint cap_0603
pins: 1, 2

## CC0805BRNPO9BN1R0
designator C?, comment 1pF/50V
CAP CER pF 1 50V C0G 0.1pF SMD 0805 125C Paper T/R; Manufacturer 1: Yageo; Manufacturer Part Number 1: CC0805BRNPO9BN1R0; Description 1: Cap Ceramic 1pF 50V C0G 0.1pF SMD 0805 125C Paper T/R; Capacitance: 1pF; Supplier 1: Digi-Key; Stock 1: 7343; Pricing 1: 1=0.18, 10=0.125, 100=0.0589, 500=0.04126, 1000=0.03416 (USD); Mount: Surface Mount; Case/Package: 0805; Weight: 0.000194oz; Case Code (Imperial): 0805; Case Code (Metric): 2012; Min Operating Temperature: -55°C; Max Operating Temperature: 125°C; Packaging: Tape and Reel; Composition: Ceramic; Voltage Rating (DC): 50V; Dielectric: C0G; Termination: SMD/SMT; Voltage Rating: 50V; Length: 2mm; Height: 0.6mm; Width: 0.049inch; Thickness: 0.028inch; Depth: 1.25mm; ComponentLink1URL: http://www.yageo.com/documents/recent/UPY-GP_NP0_16V-to-50V_16.pdf?src-supplier=Digi-Key; ComponentLink1Description: http://www.yageo.com/documents/recent/UPY-GP_NP0_16V-to-50V_16.pdf?src-supplier=Digi-Key; ComponentLink2URL: http://www.mouser.com/ds/2/447/Yageo_UPY-GP_NP0_16V-to-50V_9-358835.pdf?src-supplier=Mouser; ComponentLink2Description: http://www.mouser.com/ds/2/447/Yageo_UPY-GP_NP0_16V-to-50V_9-358835.pdf?src-supplier=Mouser; ComponentLink3URL: http://www.yageo.com/documents/recent/UPY-GP_NP0_16V-to-50V_6.pdf?src-supplier=Avnet+Europe; ComponentLink3Description: http://www.yageo.com/documents/recent/UPY-GP_NP0_16V-to-50V_6.pdf?src-supplier=Avnet+Europe; ComponentLink4URL: http://www.yageo.com/exep/pages/download/literatures/ProductSelectionGuide%202014_Final_2.pdf?src-supplier=Digi-Key; ComponentLink4Description: http://www.yageo.com/exep/pages/download/literatures/ProductSelectionGuide%202014_Final_2.pdf?src-supplier=Digi-Key; ComponentLink5URL: http://www.yageo.com/documents/recent/UPY-GP_NP0_16V-to-50V_8.pdf?src-supplier=Avnet; ComponentLink5Description: http://www.yageo.com/documents/recent/UPY-GP_NP0_16V-to-50V_8.pdf?src-supplier=Avnet; ComponentLink6URL: http://components.arrow.com/part/dataview/0323_00784956?src-supplier=Arrow+Europe; ComponentLink6Description: http://components.arrow.com/part/dataview/0323_00784956?src-supplier=Arrow+Europe; Supplier Part Number 1: 311-4124-1-ND
footprint Cap_0805
pins: 1, 2

## CC0805BRNPO9BN1R5
designator C?, comment 1.5pF/50V
CAP CER pF 1.5 50V NPO 0805; Manufacturer: Yageo; Manufacturer Part Number: CC0805BRNPO9BN1R5; Capacitance: 1.5pF; Dielectric: C0G; Supplier 1: Digi-Key; Stock 1: 13491; Pricing 1: 1 = 0,17000, 10 = 0,12000, 50 = 0,06800, 100 = 0,05640, 500 = 0,03952, 1000 = 0,03272 (USD); RoHS: Yes; Mount: Surface Mount; Case/Package: 0805; Case Code (Imperial): 0805; Case Code (Metric): 2012; Weight: 0.000194oz; Min Operating Temperature: -55°C; Max Operating Temperature: 125°C; Termination: SMD/SMT; Resistor Type: Ceramic; Voltage Rating (DC): 50V; Packaging: Tape and Reel; Voltage Rating: 50V; Length: 2mm; Width: 0.049inch; Height: 0.6mm; Thickness: 0.028inch; Depth: 1.25mm; Radiation Hardening: No; Lead Free: Lead Free; ComponentLink1URL: https://datasheet.ciiva.com/17434/upy-gp-np0-16v-to-50v-8-17434533.pdf?src-supplier=Avnet+Europe; ComponentLink1Description: https://datasheet.ciiva.com/17434/upy-gp-np0-16v-to-50v-8-17434533.pdf?src-supplier=Avnet+Europe; ComponentLink2URL: https://datasheet.ciiva.com/11465/upy-gp-np0-16v-to-50v-8-11465212.pdf?src-supplier=Avnet; ComponentLink2Description: https://datasheet.ciiva.com/11465/upy-gp-np0-16v-to-50v-8-11465212.pdf?src-supplier=Avnet; Supplier Part Number 1: 311-4126-1-ND
footprint Cap_0805
pins: 1, 2

## CC0805BRNPO9BN2R2
designator C?
CAP CER pF 2.2 50V C0G 0.1pF SMD 0805 125C Paper T/R; Manufacturer 1: Yageo; Description 1: Cap Ceramic 2.2pF 50V C0G 0.1pF SMD 0805 125C Paper T/R; Capacitance: 2.2pF; Supplier 1: Digi-Key; Manufacturer Part Number 1: CC0805BRNPO9BN2R2; Stock 1: 8026; Pricing 1: 1=0.18, 10=0.125, 100=0.0589, 500=0.04126, 1000=0.03416 (USD); Mount: Surface Mount; Case/Package: 0805; Weight: 0.000194oz; Case Code (Imperial): 0805; Case Code (Metric): 2012; Min Operating Temperature: -55°C; Max Operating Temperature: 125°C; Voltage Rating (DC): 50V; Packaging: Tape and Reel; Voltage Rating: 50V; Dielectric: C0G; Termination: SMD/SMT; Composition: Ceramic; Length: 0.079inch; Width: 0.049inch; Thickness: 0.028inch; Depth: 1.25mm; Radiation Hardening: No; Lead Free: Lead Free; ComponentLink1URL: http://www.mouser.com/ds/2/447/Yageo_UPY-GP_NP0_16V-to-50V_9-358835.pdf?src-supplier=Mouser; ComponentLink1Description: http://www.mouser.com/ds/2/447/Yageo_UPY-GP_NP0_16V-to-50V_9-358835.pdf?src-supplier=Mouser; ComponentLink2URL: http://www.yageo.com/documents/recent/UPY-GP_NP0_16V-to-50V_8.pdf?src-supplier=Avnet+Europe; ComponentLink2Description: http://www.yageo.com/documents/recent/UPY-GP_NP0_16V-to-50V_8.pdf?src-supplier=Avnet+Europe; ComponentLink3URL: http://www.yageo.com/documents/recent/UPY-GP_NP0_16V-to-50V_8.pdf?src-supplier=Avnet; ComponentLink3Description: http://www.yageo.com/documents/recent/UPY-GP_NP0_16V-to-50V_8.pdf?src-supplier=Avnet; Supplier Part Number 1: 311-4128-1-ND
footprint Cap_0805
pins: 1, 2

## CC0805BRNPO9BN4R7
designator C?
CAP CER pF 4.7 50V NPO 0805; Manufacturer 1: Yageo; Description 1: Cap Ceramic 4.7pF 50V C0G 0.1pF SMD 0805 125C T/R; Capacitance: 4.7pF; Dielectric: C0G; Supplier 1: Digi-Key; Manufacturer Part Number 1: CC0805BRNPO9BN4R7; Stock 1: 5998; Pricing 1: 1=0.18, 10=0.125, 100=0.0589, 500=0.04126, 1000=0.03416 (USD); Mount: Surface Mount; Case/Package: 0805; Weight: 0.000194oz; Case Code (Imperial): 0805; Case Code (Metric): 2012; Min Operating Temperature: -55°C; Max Operating Temperature: 125°C; Voltage Rating (DC): 50V; Packaging: Tape and Reel; Termination: SMD/SMT; Composition: Ceramic; Voltage Rating: 50V; Length: 2mm; Width: 0.049inch; Thickness: 0.028inch; Depth: 1.25mm; Radiation Hardening: No; Lead Free: Lead Free; ComponentLink1URL: http://www.yageo.com/documents/recent/UPY-GP_NP0_16V-to-50V_8.pdf?src-supplier=Avnet; ComponentLink1Description: http://www.yageo.com/documents/recent/UPY-GP_NP0_16V-to-50V_8.pdf?src-supplier=Avnet; Supplier Part Number 1: 311-4132-1-ND
footprint Cap_0805
pins: 1, 2

## CC0805BRNPO9BN6R8
designator C?, comment CC0805BRNPO9BN6R8-ND
CAP CER pF 6.8 50V C0G 0.1pF SMD 0805 125C Paper T/R; Manufacturer 1: Yageo; Description 1: Cap Ceramic 6.8pF 50V C0G 0.1pF SMD 0805 125C Paper T/R; Capacitance: 6.8pF; Supplier 1: Digi-Key; Manufacturer Part Number 1: CC0805BRNPO9BN6R8; Stock 1: 0; Pricing 1: 20000=0.02238 (USD); Mount: Surface Mount; Case/Package: 0805; Weight: 0.000194oz; Case Code (Imperial): 0805; Case Code (Metric): 2012; Min Operating Temperature: -55°C; Max Operating Temperature: 125°C; Packaging: Tape and Reel; Voltage Rating (DC): 50V; Voltage Rating: 50V; Dielectric: C0G; Termination: SMD/SMT; Composition: Ceramic; Length: 0.079inch; Width: 0.049inch; Thickness: 0.028inch; Depth: 1.25mm; Lead Free: Lead Free; ComponentLink1URL: http://www.yageo.com/documents/recent/UPY-GP_NP0_16V-to-50V_8.pdf?src-supplier=Future+Electronics; ComponentLink1Description: http://www.yageo.com/documents/recent/UPY-GP_NP0_16V-to-50V_8.pdf?src-supplier=Future+Electronics; Supplier Part Number 1: CC0805BRNPO9BN6R8-ND
footprint Cap_0805
pins: 1, 2

## CC0805BRNPO9BN8R2
designator C?
CAP CER pF 8.2 50V C0G 0.1pF SMD 0805 125C Paper T/R; Manufacturer 1: Yageo; Description 1: Cap Ceramic 8.2pF 50V C0G 0.1pF SMD 0805 125C Paper T/R; Capacitance: 8.2pF; Supplier 1: Digi-Key; Manufacturer Part Number 1: CC0805BRNPO9BN8R2; Stock 1: 0; Pricing 1: 16000=0.02255 (USD); Mount: Surface Mount; Case/Package: 0805; Min Operating Temperature: -55°C; Max Operating Temperature: 125°C; Packaging: Tape and Reel; Voltage Rating (DC): 50V; Dielectric: C0G; Voltage Rating: 50V; Composition: Ceramic; Length: 2mm; Height: 0.6mm; Width: 0.049inch; Thickness: 0.028inch; Depth: 1.25mm; Radiation Hardening: No; Lead Free: Lead Free; ComponentLink1URL: http://www.yageo.com/documents/recent/UPY-GP_NP0_16V-to-50V_8.pdf?src-supplier=Avnet+Europe; ComponentLink1Description: http://www.yageo.com/documents/recent/UPY-GP_NP0_16V-to-50V_8.pdf?src-supplier=Avnet+Europe; ComponentLink2URL: http://www.mouser.com/ds/2/447/Yageo_UPY-GP_NP0_16V-to-50V_9-358835.pdf?src-supplier=Mouser; ComponentLink2Description: http://www.mouser.com/ds/2/447/Yageo_UPY-GP_NP0_16V-to-50V_9-358835.pdf?src-supplier=Mouser; ComponentLink3URL: http://www.yageo.com/documents/recent/UPY-GP_NP0_16V-to-50V_8.pdf?src-supplier=Avnet; ComponentLink3Description: http://www.yageo.com/documents/recent/UPY-GP_NP0_16V-to-50V_8.pdf?src-supplier=Avnet; Supplier Part Number 1: CC0805BRNPO9BN8R2-ND
footprint Cap_0805
pins: 1, 2

## CC0805CRNPO9BN3R0
designator C?, comment 3pF/50V
CAP CER pF 3 50V C0G/NPO 0805; Manufacturer: Yageo; Manufacturer Part Number: CC0805CRNPO9BN3R0; Capacitance: 3pF; Dielectric: C0G; Supplier 1: Digi-Key; RoHS: Yes; Category: Ceramic Capacitors; Stock 1: 4733; Pricing 1: 1=0,12000, 10=0,08400, 50=0,04740, 100=0,03930, 500=0,02754, 1000=0,02280 (USD); Mount: Surface Mount; Case/Package: 0805; Case Code (Imperial): 0805; Case Code (Metric): 2012; Weight: 0.000194oz; Min Operating Temperature: -55°C; Max Operating Temperature: 125°C; Packaging: Tape and Reel; Voltage Rating: 50V; Voltage Rating (DC): 50V; Package Quantity: 4000; Termination: SMD/SMT; Resistor Type: Ceramic; Length: 2mm; Width: 1.25mm; Thickness: 0.024inch; Depth: 1.25mm; Radiation Hardening: No; Lead Free: Lead Free; ComponentLink1URL: https://datasheet.ciiva.com/145/mlccorderingcode-145639.pdf?src-supplier=Digi-Key; ComponentLink1Description: https://datasheet.ciiva.com/145/mlccorderingcode-145639.pdf?src-supplier=Digi-Key; ComponentLink2URL: https://datasheet.ciiva.com/145/mlccorderingcode-145640.pdf?src-supplier=Digi-Key; ComponentLink2Description: https://datasheet.ciiva.com/145/mlccorderingcode-145640.pdf?src-supplier=Digi-Key; ComponentLink3URL: https://datasheet.ciiva.com/145/mlccorderingcode-145641.pdf?src-supplier=Digi-Key; ComponentLink3Description: https://datasheet.ciiva.com/145/mlccorderingcode-145641.pdf?src-supplier=Digi-Key; ComponentLink4URL: https://datasheet.ciiva.com/17436/upy-gp-np0-16v-to-50v-8-17436766.pdf?src-supplier=Avnet+Europe; ComponentLink4Description: https://datasheet.ciiva.com/17436/upy-gp-np0-16v-to-50v-8-17436766.pdf?src-supplier=Avnet+Europe; Supplier Part Number 1: 311-1092-1-ND
footprint Cap_0805
pins: 1, 2

## CC0805DRNPO9BN9R0
designator C?, comment 9pF/50V
CAP CER pF 9 50V C0G/NPO 0805; Manufacturer: Yageo; Manufacturer Part Number: CC0805DRNPO9BN9R0; Capacitance: 9pF; Dielectric: C0G; Supplier 1: Digi-Key; RoHS: Yes; Category: Ceramic Capacitors; Stock 1: 20741; Pricing 1: 1=0,12000, 10=0,08400, 50=0,04740, 100=0,03930, 500=0,02754, 1000=0,02280 (USD); Mount: Surface Mount; Case/Package: 0805; Case Code (Metric): 2012; Case Code (Imperial): 0805; Weight: 0.000194oz; Min Operating Temperature: -55°C; Max Operating Temperature: 125°C; Package Quantity: 1; Voltage Rating: 50V; Packaging: Tape and Reel; Voltage Rating (DC): 50V; Termination: SMD/SMT; Series: CC; Length: 0.079inch; Width: 0.049inch; Thickness: 0.024inch; RoHS Compliant: Yes; ComponentLink1URL: https://datasheet.ciiva.com/176/mlccorderingcode-176816.pdf?src-supplier=Digi-Key; ComponentLink1Description: https://datasheet.ciiva.com/176/mlccorderingcode-176816.pdf?src-supplier=Digi-Key; ComponentLink2URL: https://datasheet.ciiva.com/176/mlccorderingcode-176817.pdf?src-supplier=Digi-Key; ComponentLink2Description: https://datasheet.ciiva.com/176/mlccorderingcode-176817.pdf?src-supplier=Digi-Key; ComponentLink3URL: https://datasheet.ciiva.com/176/mlccorderingcode-176818.pdf?src-supplier=Digi-Key; ComponentLink3Description: https://datasheet.ciiva.com/176/mlccorderingcode-176818.pdf?src-supplier=Digi-Key; Supplier Part Number 1: 311-1098-1-ND
footprint Cap_0805
pins: 1, 2

## CC0805FRNPO9BN220
designator C?, comment 22pF/50V
CAP CER pF 22 50V C0G 1% SMD 0805 125C Paper T/R; Manufacturer 1: Yageo; Manufacturer Part Number 1: CC0805FRNPO9BN220; Description 1: Cap Ceramic 22pF 50V C0G 1% SMD 0805 125C Paper T/R; Capacitance: 22pF; Supplier 1: Digi-Key; Stock 1: 8579; Pricing 1: 1=0.25, 10=0.172, 100=0.0976, 500=0.06892, 1000=0.06031 (USD); Mount: Surface Mount; Case/Package: 0805; Min Operating Temperature: -55°C; Max Operating Temperature: 125°C; Tolerance: 1%; Packaging: Tape and Reel; Voltage Rating: 50V; Dielectric: C0G; Length: 2mm; Height: 0.6mm; Width: 0.049inch; Thickness: 0.028inch; Depth: 1.25mm; Radiation Hardening: No; Lead Free: Lead Free; ComponentLink1URL: http://www.yageo.com/documents/recent/UPY-GP_NP0_16V-to-50V_8.pdf?src-supplier=Avnet+Europe; ComponentLink1Description: http://www.yageo.com/documents/recent/UPY-GP_NP0_16V-to-50V_8.pdf?src-supplier=Avnet+Europe; ComponentLink2URL: https://www.verical.com/server-webapp/html/getDatasheet?partID=403625&src-supplier=Verical; ComponentLink2Description: https://www.verical.com/server-webapp/html/getDatasheet?partID=403625&src-supplier=Verical; ComponentLink3URL: http://www.yageo.com/documents/recent/UPY-GP_NP0_16V-to-50V_8.pdf?src-supplier=Avnet; ComponentLink3Description: http://www.yageo.com/documents/recent/UPY-GP_NP0_16V-to-50V_8.pdf?src-supplier=Avnet; Supplier Part Number 1: 311-4171-1-ND
footprint Cap_0805
pins: 1, 2